# Altium schematic symbol library SCH - CONNECTOR - TE 1932638-3.SCHLIB: 1 symbol
Pins are listed as number, name and electrical type; pins without a type are passive.

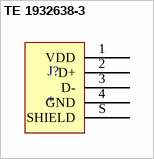
[diagram p0: symbol TE 1932638-3]

## TE 1932638-3
designator J?
pins: 1 VDD, 2 D+, 3 D-, 4 GND, S SHIELD